# Altium footprint library IC_Texas_Instruments_TLC5955RTQR_eec_0.PcbLib: 1 footprints
Each footprint in its own frame and in the unit in brackets; x right, y up, seen from the top. Pads: shape width x height; smd on the part's side, far side on the other; paste and mask are expansions set on the pad; w line width, h text height; cw(c..) or ccw(c..) is an arc to the next point about the centre after c.
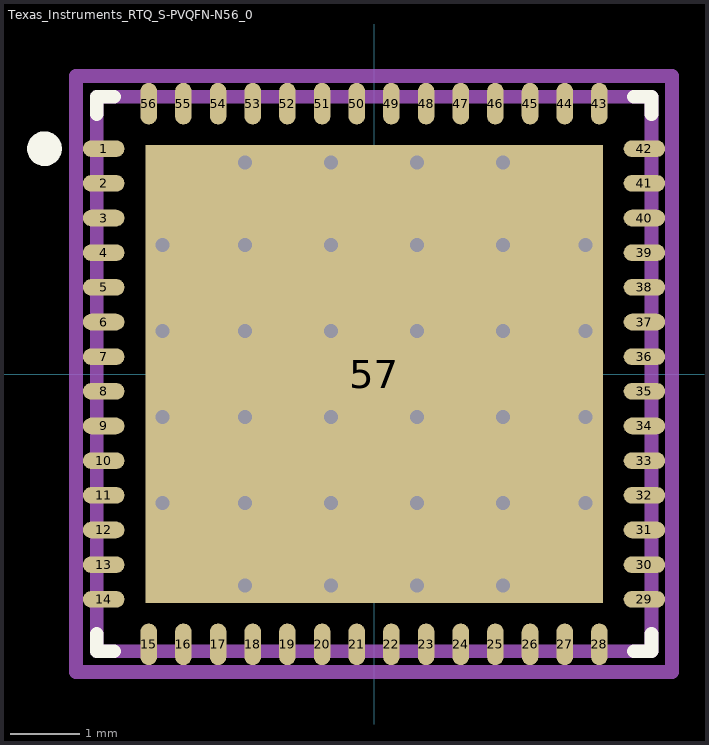
[diagram p0: the footprint, top view; thin cyan lines are the x and y axes]

## Texas_Instruments_RTQ_S-PVQFN-N56_0 [mm]
pads (57):
  rrect100% 0.6x0.24 smd paste+0 mask+0: 1(-3.9,3.25) 2(-3.9,2.75) 3(-3.9,2.25) 4(-3.9,1.75) 5(-3.9,1.25) 6(-3.9,0.75) 7(-3.9,0.25) 8(-3.9,-0.25) 9(-3.9,-0.75) 10(-3.9,-1.25) 11(-3.9,-1.75) 12(-3.9,-2.25) 13(-3.9,-2.75) 14(-3.9,-3.25) 29(3.9,-3.25) 30(3.9,-2.75) 31(3.9,-2.25) 32(3.9,-1.75) 33(3.9,-1.25) 34(3.9,-0.75) 35(3.9,-0.25) 36(3.9,0.25) 37(3.9,0.75) 38(3.9,1.25) 39(3.9,1.75) 40(3.9,2.25) 41(3.9,2.75) 42(3.9,3.25)
  rrect100% 0.24x0.6 smd paste+0 mask+0: 15(-3.25,-3.9) 16(-2.75,-3.9) 17(-2.25,-3.9) 18(-1.75,-3.9) 19(-1.25,-3.9) 20(-0.75,-3.9) 21(-0.25,-3.9) 22(0.25,-3.9) 23(0.75,-3.9) 24(1.25,-3.9) 25(1.75,-3.9) 26(2.25,-3.9) 27(2.75,-3.9) 28(3.25,-3.9) 43(3.25,3.9) 44(2.75,3.9) 45(2.25,3.9) 46(1.75,3.9) 47(1.25,3.9) 48(0.75,3.9) 49(0.25,3.9) 50(-0.25,3.9) 51(-0.75,3.9) 52(-1.25,3.9) 53(-1.75,3.9) 54(-2.25,3.9) 55(-2.75,3.9) 56(-3.25,3.9)
  rect 6.6x6.6 smd paste-1000 mask+0: 57(0,0)
via 0.62,-0.62 diameter 0.5 hole 0.2
via -0.62,0.62 diameter 0.5 hole 0.2
via 0.62,0.62 diameter 0.5 hole 0.2
via -0.62,-0.62 diameter 0.5 hole 0.2
via 1.86,0.62 diameter 0.5 hole 0.2
via -1.86,0.62 diameter 0.5 hole 0.2
via -1.86,-0.62 diameter 0.5 hole 0.2
via 1.86,-0.62 diameter 0.5 hole 0.2
via 1.86,-1.86 diameter 0.5 hole 0.2
via 1.86,1.86 diameter 0.5 hole 0.2
via -1.86,1.86 diameter 0.5 hole 0.2
via -1.86,-1.86 diameter 0.5 hole 0.2
via -0.62,-1.86 diameter 0.5 hole 0.2
via -0.62,1.86 diameter 0.5 hole 0.2
via 0.62,1.86 diameter 0.5 hole 0.2
via 0.62,-1.86 diameter 0.5 hole 0.2
via 3.05,0.62 diameter 0.5 hole 0.2
via 3.05,-0.62 diameter 0.5 hole 0.2
via 3.05,1.86 diameter 0.5 hole 0.2
via 3.05,-1.86 diameter 0.5 hole 0.2
via 0.62,3.05 diameter 0.5 hole 0.2
via -0.62,3.05 diameter 0.5 hole 0.2
via -1.86,3.05 diameter 0.5 hole 0.2
via 1.86,3.05 diameter 0.5 hole 0.2
via 1.86,-3.05 diameter 0.5 hole 0.2
via -1.86,-3.05 diameter 0.5 hole 0.2
via -0.62,-3.05 diameter 0.5 hole 0.2
via 0.62,-3.05 diameter 0.5 hole 0.2
via -3.05,1.86 diameter 0.5 hole 0.2
via -3.05,-1.86 diameter 0.5 hole 0.2
via -3.05,-0.62 diameter 0.5 hole 0.2
via -3.05,0.62 diameter 0.5 hole 0.2
Top Overlay:
  circle w0.25: c-4.754,3.25 r0.125
  lines w0.2: -4,-3.75 -4,-4 -3.75,-4 ; -4,3.75 -4,4 -3.75,4 ; 3.75,-4 4,-4 4,-3.75 ; 3.75,4 4,4 4,3.75
Top Paste:
  rectangle: -1.76,-0.52 -0.72,0.52
  rectangle: -0.52,-0.52 0.52,0.52
  rectangle: -0.52,0.72 0.52,1.76
  rectangle: -0.52,-1.76 0.52,-0.72
  rectangle: 0.72,-0.52 1.76,0.52
  rectangle: 0.72,0.72 1.76,1.76
  rectangle: -1.76,0.72 -0.72,1.76
  rectangle: -1.76,-1.76 -0.72,-0.72
  rectangle: 0.72,-1.76 1.76,-0.72
  rectangle: 0.72,-3 1.76,-1.96
  rectangle: 0.72,1.96 1.76,3
  rectangle: -1.76,1.96 -0.72,3
  rectangle: -1.76,-3 -0.72,-1.96
  rectangle: -0.52,-3 0.52,-1.96
  rectangle: -0.52,1.96 0.52,3
  rectangle: -3,1.96 -1.96,3
  rectangle: 1.96,1.96 3,3
  rectangle: 1.96,-3 3,-1.96
  rectangle: -3,-3 -1.96,-1.96
  rectangle: -3,-1.76 -1.96,-0.72
  rectangle: -3,0.72 -1.96,1.76
  rectangle: 1.96,0.72 3,1.76
  rectangle: 1.96,-1.76 3,-0.72
  rectangle: 1.96,-0.52 3,0.52
  rectangle: -3,-0.52 -1.96,0.52
Mechanical 10:
  lines w0.2: -4.3,-4.3 4.3,-4.3 4.3,4.3 -4.3,4.3 -4.3,-4.3
  text ".Designator" at 0,0 h1
Mechanical 12:
  lines w0.2: -4,-4 4,-4 4,4 -4,4 -4,-4
Mechanical 15:
  lines w0.1: -0.5,0 0.5,0 ; 0,-0.5 0,0.5
  lines w0.2: -4.3,-4.3 4.3,-4.3 4.3,4.3 -4.3,4.3 -4.3,-4.3
3D body "IC_Texas_Instruments_TLC5955RTQR_eec.STEP": height 0.25, standoff 0, extent -4.3,-4.3 4.3,4.3